# Altium footprint library do-214ac.PcbLib: 1 footprints
Each footprint in its own frame and in the unit in brackets; x right, y up, seen from the top. Pads: shape width x height; smd on the part's side, far side on the other; paste and mask are expansions set on the pad; w line width, h text height; cw(c..) or ccw(c..) is an arc to the next point about the centre after c.
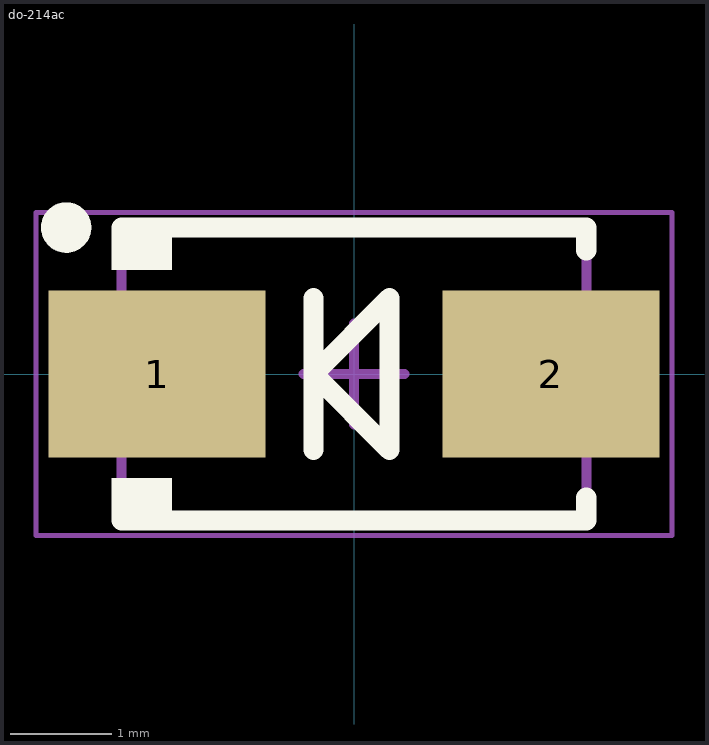
[diagram p0: the footprint, top view; thin cyan lines are the x and y axes]

## do-214ac [mm] "DO-214AC, SMA"
height 2.3
pads (2):
  rect 2.15x1.65 smd: 1(-1.95,0) 2(1.95,0)
Top Overlay:
  circle w0.25: c-2.85,1.45 r0.125
  rectangle: -2.4,-1.45 -1.8,-1.03
  rectangle: -2.4,1.03 -1.8,1.45
  lines w0.2: -2.3,-1.13 -2.3,-1.45 2.3,-1.45 2.3,-1.225 ; -2.3,1.13 -2.3,1.45 2.3,1.45 2.3,1.225 ; -0.4,-0.75 -0.4,0 ; -0.4,0.75 -0.4,0 ; -0.4,0 0.35,0.75 0.35,-0.75 -0.4,0
Mechanical 13:
  lines w0.1: -2.3,-1.46 2.3,-1.46 2.3,1.46 -2.3,1.46 -2.3,-1.46
Mechanical 15:
  lines w0.05: -3.15,-1.6 3.15,-1.6 3.15,1.6 -3.15,1.6 -3.15,-1.6
  lines w0.1: -0.5,0 0.5,0 ; 0,-0.5 0,0.5
3D body: height 2.3, standoff 0, extent -2.3,-1.46 2.3,1.46